# Altium footprint library Diod.PcbLib: 392 footprints (part 5 of 25)
Each footprint in its own frame and in the unit in brackets; x right, y up, seen from the top. Pads: shape width x height; smd on the part's side, far side on the other; paste and mask are expansions set on the pad; w line width, h text height; cw(c..) or ccw(c..) is an arc to the next point about the centre after c.
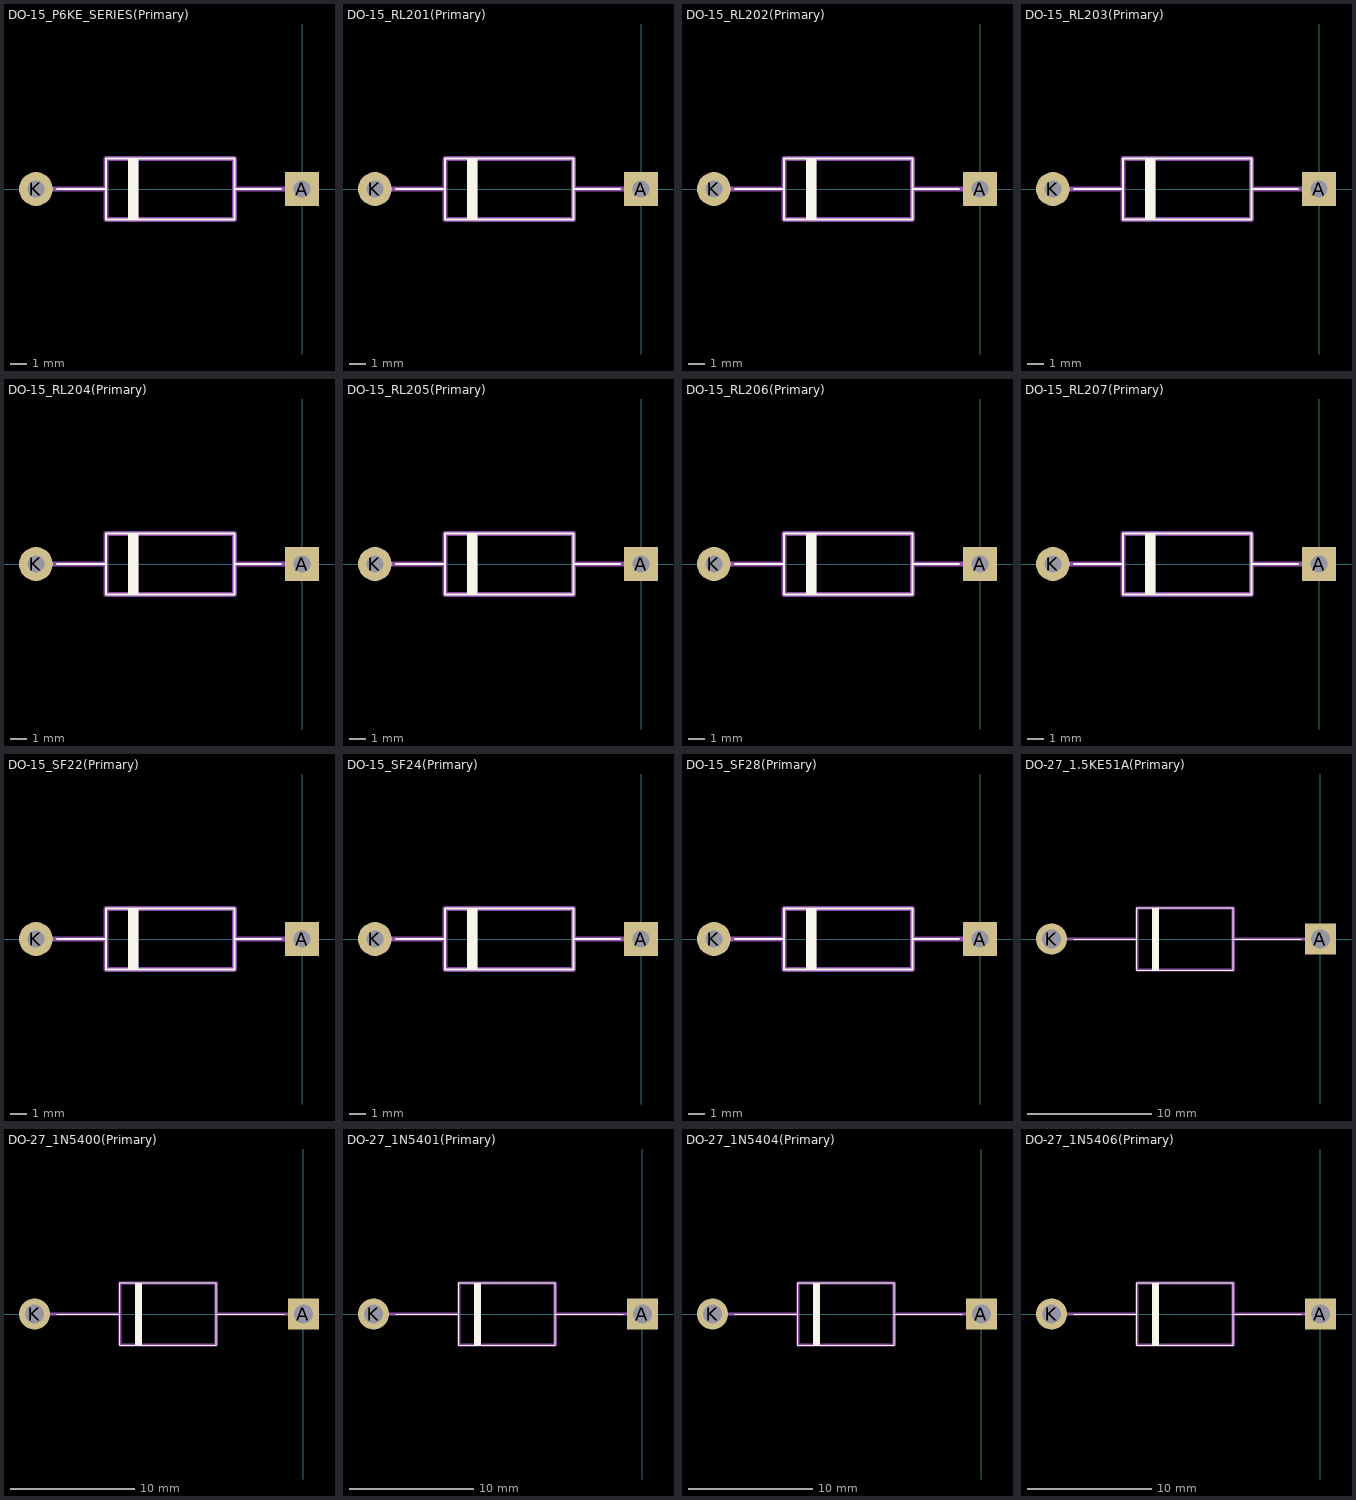
[diagram p4: the footprints below, top view; thin cyan lines are the x and y axes]

## DO-15_P6KE_SERIES(Primary) [mm]
pads (2):
  rect 2x2 hole 1: A(0,0)
  round 2 hole 1: K(-15.75,0)
Top Overlay:
  region: -10.3,-1.8 -9.7,-1.8 -9.7,1.8 -10.3,1.8
  lines w0.1: -14.5,0 -11.6,0 ; -1.25,0 -4,0 ; -4,0 -4,1.8 -11.6,1.8 -11.6,-1.8 -4,-1.8 -4,0
Mechanical 1:
  region: -10.3,-1.8 -9.7,-1.8 -9.7,1.8 -10.3,1.8
  lines w0.3: -15.75,0 -11.6,0 ; 0,0 -4,0 ; -4,0 -4,1.8 -11.6,1.8 -11.6,-1.8 -4,-1.8 -4,0

## DO-15_RL201(Primary) [mm]
pads (2):
  rect 2x2 hole 1: A(0,0)
  round 2 hole 1: K(-15.75,0)
Top Overlay:
  region: -10.3,-1.8 -9.7,-1.8 -9.7,1.8 -10.3,1.8
  lines w0.1: -14.5,0 -11.6,0 ; -1.25,0 -4,0 ; -4,0 -4,1.8 -11.6,1.8 -11.6,-1.8 -4,-1.8 -4,0
Mechanical 1:
  region: -10.3,-1.8 -9.7,-1.8 -9.7,1.8 -10.3,1.8
  lines w0.3: -15.75,0 -11.6,0 ; 0,0 -4,0 ; -4,0 -4,1.8 -11.6,1.8 -11.6,-1.8 -4,-1.8 -4,0

## DO-15_RL202(Primary) [mm]
pads (2):
  rect 2x2 hole 1: A(0,0)
  round 2 hole 1: K(-15.75,0)
Top Overlay:
  region: -10.3,-1.8 -9.7,-1.8 -9.7,1.8 -10.3,1.8
  lines w0.1: -14.5,0 -11.6,0 ; -1.25,0 -4,0 ; -4,0 -4,1.8 -11.6,1.8 -11.6,-1.8 -4,-1.8 -4,0
Mechanical 1:
  region: -10.3,-1.8 -9.7,-1.8 -9.7,1.8 -10.3,1.8
  lines w0.3: -15.75,0 -11.6,0 ; 0,0 -4,0 ; -4,0 -4,1.8 -11.6,1.8 -11.6,-1.8 -4,-1.8 -4,0

## DO-15_RL203(Primary) [mm]
pads (2):
  rect 2x2 hole 1: A(0,0)
  round 2 hole 1: K(-15.75,0)
Top Overlay:
  region: -10.3,-1.8 -9.7,-1.8 -9.7,1.8 -10.3,1.8
  lines w0.1: -14.5,0 -11.6,0 ; -1.25,0 -4,0 ; -4,0 -4,1.8 -11.6,1.8 -11.6,-1.8 -4,-1.8 -4,0
Mechanical 1:
  region: -10.3,-1.8 -9.7,-1.8 -9.7,1.8 -10.3,1.8
  lines w0.3: -15.75,0 -11.6,0 ; 0,0 -4,0 ; -4,0 -4,1.8 -11.6,1.8 -11.6,-1.8 -4,-1.8 -4,0

## DO-15_RL204(Primary) [mm]
pads (2):
  rect 2x2 hole 1: A(0,0)
  round 2 hole 1: K(-15.75,0)
Top Overlay:
  region: -10.3,-1.8 -9.7,-1.8 -9.7,1.8 -10.3,1.8
  lines w0.1: -14.5,0 -11.6,0 ; -1.25,0 -4,0 ; -4,0 -4,1.8 -11.6,1.8 -11.6,-1.8 -4,-1.8 -4,0
Mechanical 1:
  region: -10.3,-1.8 -9.7,-1.8 -9.7,1.8 -10.3,1.8
  lines w0.3: -15.75,0 -11.6,0 ; 0,0 -4,0 ; -4,0 -4,1.8 -11.6,1.8 -11.6,-1.8 -4,-1.8 -4,0

## DO-15_RL205(Primary) [mm]
pads (2):
  rect 2x2 hole 1: A(0,0)
  round 2 hole 1: K(-15.75,0)
Top Overlay:
  region: -10.3,-1.8 -9.7,-1.8 -9.7,1.8 -10.3,1.8
  lines w0.1: -14.5,0 -11.6,0 ; -1.25,0 -4,0 ; -4,0 -4,1.8 -11.6,1.8 -11.6,-1.8 -4,-1.8 -4,0
Mechanical 1:
  region: -10.3,-1.8 -9.7,-1.8 -9.7,1.8 -10.3,1.8
  lines w0.3: -15.75,0 -11.6,0 ; 0,0 -4,0 ; -4,0 -4,1.8 -11.6,1.8 -11.6,-1.8 -4,-1.8 -4,0

## DO-15_RL206(Primary) [mm]
pads (2):
  rect 2x2 hole 1: A(0,0)
  round 2 hole 1: K(-15.75,0)
Top Overlay:
  region: -10.3,-1.8 -9.7,-1.8 -9.7,1.8 -10.3,1.8
  lines w0.1: -14.5,0 -11.6,0 ; -1.25,0 -4,0 ; -4,0 -4,1.8 -11.6,1.8 -11.6,-1.8 -4,-1.8 -4,0
Mechanical 1:
  region: -10.3,-1.8 -9.7,-1.8 -9.7,1.8 -10.3,1.8
  lines w0.3: -15.75,0 -11.6,0 ; 0,0 -4,0 ; -4,0 -4,1.8 -11.6,1.8 -11.6,-1.8 -4,-1.8 -4,0

## DO-15_RL207(Primary) [mm]
pads (2):
  rect 2x2 hole 1: A(0,0)
  round 2 hole 1: K(-15.75,0)
Top Overlay:
  region: -10.3,-1.8 -9.7,-1.8 -9.7,1.8 -10.3,1.8
  lines w0.1: -14.5,0 -11.6,0 ; -1.25,0 -4,0 ; -4,0 -4,1.8 -11.6,1.8 -11.6,-1.8 -4,-1.8 -4,0
Mechanical 1:
  region: -10.3,-1.8 -9.7,-1.8 -9.7,1.8 -10.3,1.8
  lines w0.3: -15.75,0 -11.6,0 ; 0,0 -4,0 ; -4,0 -4,1.8 -11.6,1.8 -11.6,-1.8 -4,-1.8 -4,0

## DO-15_SF22(Primary) [mm]
pads (2):
  rect 2x2 hole 1: A(0,0)
  round 2 hole 1: K(-15.75,0)
Top Overlay:
  region: -10.3,-1.8 -9.7,-1.8 -9.7,1.8 -10.3,1.8
  lines w0.1: -14.5,0 -11.6,0 ; -1.25,0 -4,0 ; -4,0 -4,1.8 -11.6,1.8 -11.6,-1.8 -4,-1.8 -4,0
Mechanical 1:
  region: -10.3,-1.8 -9.7,-1.8 -9.7,1.8 -10.3,1.8
  lines w0.3: -15.75,0 -11.6,0 ; 0,0 -4,0 ; -4,0 -4,1.8 -11.6,1.8 -11.6,-1.8 -4,-1.8 -4,0

## DO-15_SF24(Primary) [mm]
pads (2):
  rect 2x2 hole 1: A(0,0)
  round 2 hole 1: K(-15.75,0)
Top Overlay:
  region: -10.3,-1.8 -9.7,-1.8 -9.7,1.8 -10.3,1.8
  lines w0.1: -14.5,0 -11.6,0 ; -1.25,0 -4,0 ; -4,0 -4,1.8 -11.6,1.8 -11.6,-1.8 -4,-1.8 -4,0
Mechanical 1:
  region: -10.3,-1.8 -9.7,-1.8 -9.7,1.8 -10.3,1.8
  lines w0.3: -15.75,0 -11.6,0 ; 0,0 -4,0 ; -4,0 -4,1.8 -11.6,1.8 -11.6,-1.8 -4,-1.8 -4,0

## DO-15_SF28(Primary) [mm]
pads (2):
  rect 2x2 hole 1: A(0,0)
  round 2 hole 1: K(-15.75,0)
Top Overlay:
  region: -10.3,-1.8 -9.7,-1.8 -9.7,1.8 -10.3,1.8
  lines w0.1: -14.5,0 -11.6,0 ; -1.25,0 -4,0 ; -4,0 -4,1.8 -11.6,1.8 -11.6,-1.8 -4,-1.8 -4,0
Mechanical 1:
  region: -10.3,-1.8 -9.7,-1.8 -9.7,1.8 -10.3,1.8
  lines w0.3: -15.75,0 -11.6,0 ; 0,0 -4,0 ; -4,0 -4,1.8 -11.6,1.8 -11.6,-1.8 -4,-1.8 -4,0

## DO-27_1.5KE51A(Primary) [mm]
pads (2):
  rect 2.5x2.5 hole 1.5: A(0,0)
  round 2.5 hole 1.5: K(-21.6,0)
Top Overlay:
  region: -13.5,2.5 -13.5,-2.5 -13,-2.5 -13,2.5
  lines w0.1: -19.812,0 -14.75,0 ; -7,0 -1.524,0 ; -14.75,0 -14.75,2.5 -7,2.5 -7,-2.5 -14.75,-2.5 -14.75,0
Mechanical 1:
  region: -13.5,2.5 -13.5,-2.5 -13,-2.5 -13,2.5
  lines w0.25: -21.6,0 -14.75,0 ; -7,0 0,0 ; -14.75,0 -14.75,2.5 -7,2.5 -7,-2.5 -14.75,-2.5 -14.75,0

## DO-27_1N5400(Primary) [mm]
pads (2):
  rect 2.5x2.5 hole 1.5: A(0,0)
  round 2.5 hole 1.5: K(-21.6,0)
Top Overlay:
  region: -13.5,2.5 -13.5,-2.5 -13,-2.5 -13,2.5
  lines w0.1: -19.812,0 -14.75,0 ; -7,0 -1.524,0 ; -14.75,0 -14.75,2.5 -7,2.5 -7,-2.5 -14.75,-2.5 -14.75,0
Mechanical 1:
  region: -13.5,2.5 -13.5,-2.5 -13,-2.5 -13,2.5
  lines w0.25: -21.6,0 -14.75,0 ; -7,0 0,0 ; -14.75,0 -14.75,2.5 -7,2.5 -7,-2.5 -14.75,-2.5 -14.75,0

## DO-27_1N5401(Primary) [mm]
pads (2):
  rect 2.5x2.5 hole 1.5: A(0,0)
  round 2.5 hole 1.5: K(-21.6,0)
Top Overlay:
  region: -13.5,2.5 -13.5,-2.5 -13,-2.5 -13,2.5
  lines w0.1: -19.812,0 -14.75,0 ; -7,0 -1.524,0 ; -14.75,0 -14.75,2.5 -7,2.5 -7,-2.5 -14.75,-2.5 -14.75,0
Mechanical 1:
  region: -13.5,2.5 -13.5,-2.5 -13,-2.5 -13,2.5
  lines w0.25: -21.6,0 -14.75,0 ; -7,0 0,0 ; -14.75,0 -14.75,2.5 -7,2.5 -7,-2.5 -14.75,-2.5 -14.75,0

## DO-27_1N5404(Primary) [mm]
pads (2):
  rect 2.5x2.5 hole 1.5: A(0,0)
  round 2.5 hole 1.5: K(-21.6,0)
Top Overlay:
  region: -13.5,2.5 -13.5,-2.5 -13,-2.5 -13,2.5
  lines w0.1: -19.812,0 -14.75,0 ; -7,0 -1.524,0 ; -14.75,0 -14.75,2.5 -7,2.5 -7,-2.5 -14.75,-2.5 -14.75,0
Mechanical 1:
  region: -13.5,2.5 -13.5,-2.5 -13,-2.5 -13,2.5
  lines w0.25: -21.6,0 -14.75,0 ; -7,0 0,0 ; -14.75,0 -14.75,2.5 -7,2.5 -7,-2.5 -14.75,-2.5 -14.75,0

## DO-27_1N5406(Primary) [mm]
pads (2):
  rect 2.5x2.5 hole 1.5: A(0,0)
  round 2.5 hole 1.5: K(-21.6,0)
Top Overlay:
  region: -13.5,2.5 -13.5,-2.5 -13,-2.5 -13,2.5
  lines w0.1: -19.812,0 -14.75,0 ; -7,0 -1.524,0 ; -14.75,0 -14.75,2.5 -7,2.5 -7,-2.5 -14.75,-2.5 -14.75,0
Mechanical 1:
  region: -13.5,2.5 -13.5,-2.5 -13,-2.5 -13,2.5
  lines w0.25: -21.6,0 -14.75,0 ; -7,0 0,0 ; -14.75,0 -14.75,2.5 -7,2.5 -7,-2.5 -14.75,-2.5 -14.75,0